# Altium footprint library B2B-EH-A.PcbLib: 1 footprints
Each footprint in its own frame and in the unit in brackets; x right, y up, seen from the top. Pads: shape width x height; smd on the part's side, far side on the other; paste and mask are expansions set on the pad; w line width, h text height; cw(c..) or ccw(c..) is an arc to the next point about the centre after c.
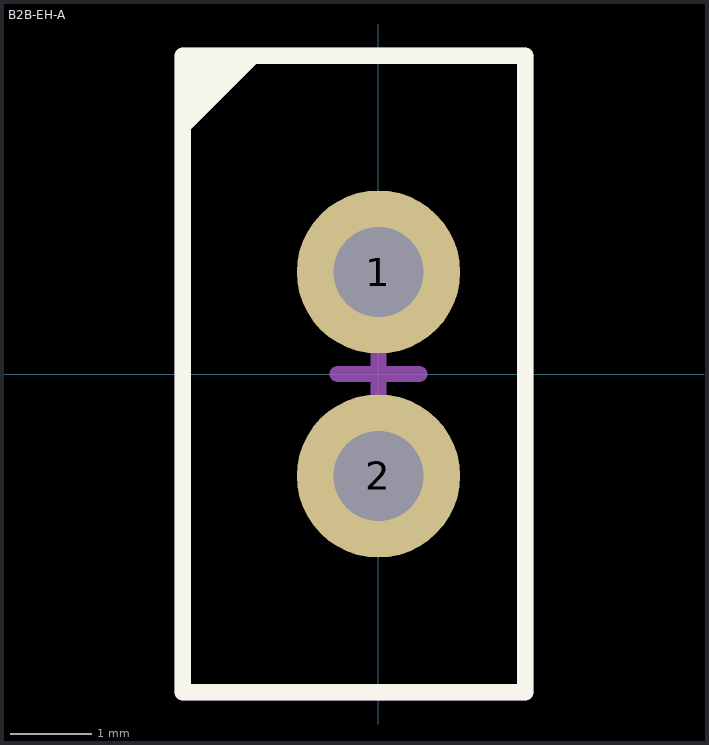
[diagram p0: the footprint, top view; thin cyan lines are the x and y axes]

## B2B-EH-A [mm] "2.5mm 2 pin male"
height 6
pads (2):
  round 2 hole 1.1: 1(0,1.25) 2(0,-1.25)
Top Overlay:
  region: -2.35,3.85 -2.35,2.95 -1.45,3.85
  lines w0.2: -2.4,-3.9 1.8,-3.9 1.8,3.9 -2.4,3.9 -2.4,-3.9
Top Assembly:
  lines w0.2: -2.4,-3.9 -2.4,3.9 1.8,3.9 1.8,-3.9 -2.4,-3.9
Top Courtyard:
  lines w0.2: -2.4,-3.9 -2.4,3.9 1.8,3.9 1.8,-3.9 -2.4,-3.9
Top Component Center (Mech9):
  lines w0.2: -0.5,0 0.5,0 ; 0,-0.5 0,0.5
3D body "JST-B2B-EH-A.STEP": height 6, standoff -3.2, extent -2.2,-3.75 1.6,3.75